# EAGLE library part PINHD9 (library TFT_LCD_2.2)
Pin Head 1x9 Holes 2.54 mm
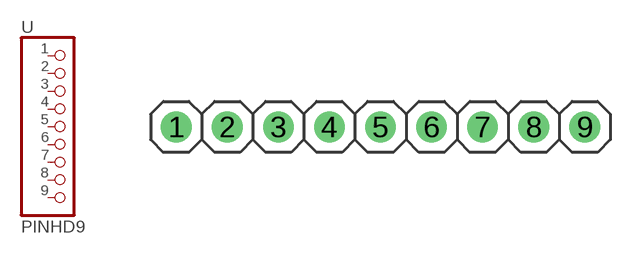
[diagram p1: symbol with the pads of PINHD9; footprint PINHD9]

Designator prefix -

## PINHD9  [PINHD9]
1  1  pas
2  2  pas
3  3  pas
4  4  pas
5  5  pas
6  6  pas
7  7  pas
8  8  pas
9  9  pas

## Footprint PINHD9 (pad centres in mm)
drill 1.016: 1 -10.16,0; 2 -7.62,0; 3 -5.08,0; 4 -2.54,0; 5 0,0; 6 2.54,0; 7 5.08,0; 8 7.62,0; 9 10.16,0